# Altium integrated library OPA381AIDGKR.IntLib: 1 symbol
Pins are listed as number, name and electrical type; pins without a type are passive.

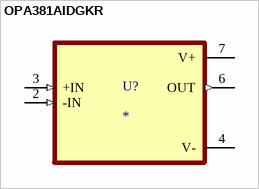
[diagram p0: symbol OPA381AIDGKR]

## OPA381AIDGKR
designator U?
Precision, Low Power, High-Speed Transimpedance Amplifier; MF: Texas Instruments; MP: OPA381AIDGKR; SnapEDA_Link: https://www.snapeda.com/parts/OPA381AIDGKR/Texas+Instruments/view-part/?ref=snap; Package: VSSOP-8 Texas Instruments; Value: *; Check_prices: https://www.snapeda.com/parts/OPA381AIDGKR/Texas+Instruments/view-part/?ref=eda
footprint SOP65P490X110-8N
pins: 2 -IN (in), 3 +IN (in), 4 V- (power), 6 OUT (out), 7 V+ (power)